# EAGLE library part DPDT (library switches)
DPDT Toggle Switches
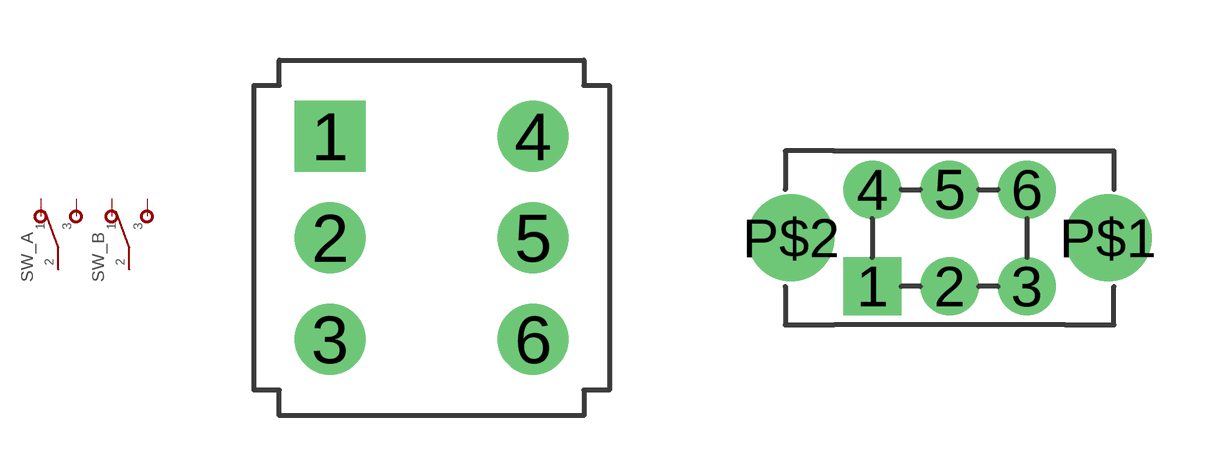
[diagram p8: symbol with the pads of DPDT_SUBMINI; footprints DPDT_SUBMINI, DPDT_SLIDE]

Designator prefix SW; gates _A=SPDT _B=SPDT

## DPDT.3  [DPDT_SUBMINI]
1  _A:1  pas
2  _A:2  pas
3  _A:3  pas
4  _B:1  pas
5  _B:2  pas
6  _B:3  pas

## DPDT.4  [DPDT_SLIDE]
Pads as for DPDT_SUBMINI

## DPDT.5  [DPDT_WIRED]
P$1  _A:1  pas
P$2  _A:2  pas
P$3  _A:3  pas
P$4  _B:1  pas
P$5  _B:2  pas
P$6  _B:3  pas

## DPDT.1  [DPDT_SOLDER_LUG]
A1  _A:1  pas
A2  _A:2  pas
A3  _A:3  pas
B1  _B:1  pas
B2  _B:2  pas
B3  _B:3  pas

## DPDT.2  [DPDT_PC_MOUNT]
Pads as for DPDT_SOLDER_LUG

## Footprint DPDT_SUBMINI (pad centres in mm)
Taiway 2MD1T1B1M2RE http://smallbear-electronics.mybigcommerce.com/dpdt-on-on-sub-mini-pc-mount/
drill 1 pad 1.778 square: 1 -2.54,2.54
drill 1 pad 1.778: 2 -2.54,0; 3 -2.54,-2.54; 4 2.54,2.54; 5 2.54,0; 6 2.54,-2.54

## Footprint DPDT_SLIDE (pad centres in mm)
C&K 0S202011MS2QN1 http://www.mouser.com/ProductDetail/CK-Components/0S202011MS2QN1/?qs=sGAEpiMZZMtHXLepoqNyVWY62gt1t1Lcq4sdpP5HA5g%3d
drill 1 square: 1 -2,-1.25
drill 1: 2 0,-1.25; 3 2,-1.25; 4 -2,1.25; 5 0,1.25; 6 2,1.25
drill 1.5: P$1 4.1,0; P$2 -4.1,0

## Footprint DPDT_WIRED (pad centres in mm)
Wire-to-switch
drill 1.2 pad 2.184 square: P$1 -6.35,0
drill 1.2 pad 2.184: P$2 -3.81,0; P$3 -1.27,0; P$4 1.27,0; P$5 3.81,0; P$6 6.35,0

## Footprint DPDT_SOLDER_LUG (pad centres in mm)
Taiway 1MD1T1B1C0M1QE http://smallbear-electronics.mybigcommerce.com/dpdt-on-on-solder-term/
drill 2.4 square: A1 -2.413,4.834
drill 2.4: A2 -2.413,0.004; A3 -2.413,-4.826; B1 2.417,4.834; B2 2.417,0.004; B3 2.417,-4.826

## Footprint DPDT_PC_MOUNT (pad centres in mm)
Taiway 1MD1T1B1C0M2QE http://smallbear-electronics.mybigcommerce.com/dpdt-on-on-pc-mount/
drill 1.6 square: A1 -2.413,4.834
drill 1.6: A2 -2.413,0.004; A3 -2.413,-4.826; B1 2.417,4.834; B2 2.417,0.004; B3 2.417,-4.826